# Altium footprint library HDR2X4_Gemmy_ESM_Platform.PcbLib: 1 footprints
Each footprint in its own frame and in the unit in brackets; x right, y up, seen from the top. Pads: shape width x height; smd on the part's side, far side on the other; paste and mask are expansions set on the pad; w line width, h text height; cw(c..) or ccw(c..) is an arc to the next point about the centre after c.
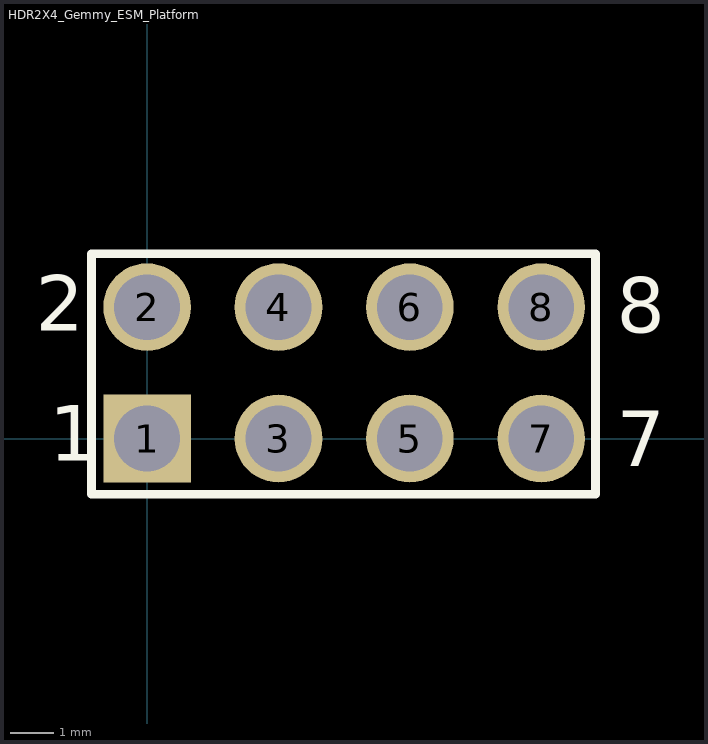
[diagram p0: the footprint, top view; thin cyan lines are the x and y axes]

## HDR2X4_Gemmy_ESM_Platform [mm] "Gemmy_ESM_Platform Header; 4x2 Position"
pads (8):
  rect 2x2 hole 1.5: 1(0,0)
  round 2 hole 1.5: 2(0,3) 3(3,0) 4(3,3) 5(6,0) 6(6,3) 7(9,0) 8(9,3)
Top Overlay:
  lines w0.2: -1.27,-1.27 10.236,-1.27 10.236,4.216 -1.27,4.216 -1.27,-1.27
  text "2" at -2.54,2.464 h1.27
  text "1" at -2.235,-0.508 h1.27
  text "7" at 10.719,-0.635 h1.27
  text "8" at 10.719,2.413 h1.27